# EAGLE library part SSOP20_GENERIC (library Generic footprints)
TSSOP-20 http://cds.linear.com/docs/en/packaging/SSOP_20_05-08-1640.pdf 11/19/13 Matt Straughn
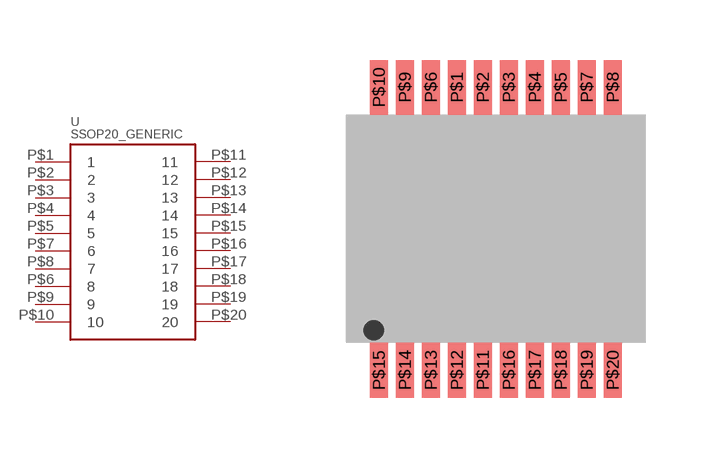
[diagram p2: symbol with the pads of TSSOP-20; footprint TSSOP-20]

Designator prefix -

## SSOP20_GENERIC  [TSSOP-20]
P$1  1
P$2  2
P$3  3
P$4  4
P$5  5
P$6  8
P$7  6
P$8  7
P$9  9
P$10  10
P$11  11
P$12  12
P$13  13
P$14  14
P$15  15
P$16  16
P$17  17
P$18  18
P$19  19
P$20  20

## Footprint TSSOP-20 (pad centres in mm)
TSSOP-20 http://cds.linear.com/docs/en/packaging/SSOP_20_05-08-1640.pdf 11/19 Matt Straughn
smd 0.45 x 1.37: P$1 -0.975,3.535; P$2 -0.325,3.535; P$3 0.325,3.535; P$4 0.975,3.535; P$5 1.625,3.535; P$6 -1.625,3.535; P$7 2.275,3.535; P$8 2.925,3.535; P$9 -2.275,3.535; P$10 -2.925,3.535; P$11 -0.325,-3.535; P$12 -0.975,-3.535; P$13 -1.625,-3.535; P$14 -2.275,-3.535; P$15 -2.925,-3.535; P$16 0.325,-3.535; P$17 0.975,-3.535; P$18 1.625,-3.535; P$19 2.275,-3.535; P$20 2.925,-3.535